# EAGLE library part SA58631 (library Audio-Power-amlifier V.2.0)
The SA58631 is a one channel audio amplifier in an HVSON8 package. It provides power output of 3 W with an 8 W load at 9 V supply. The internal circuit is comprised of a BTL (Bridge Tied Load) amplifier with a complementary PNP-NPN output stage and standby/mute logic. The SA58631 is housed in an 8-pin HVSON package which has an exposed die attach paddle enabling reduced thermal resistance and increased power dissipation.
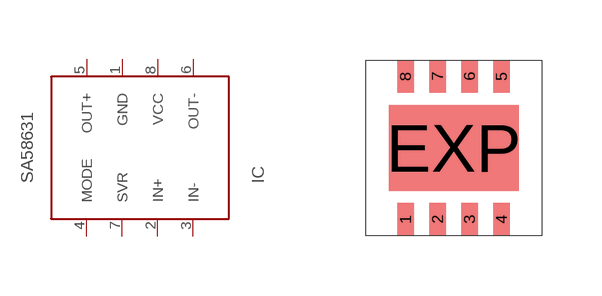
[diagram p100: symbol with the pads of SOT909-1; footprint SOT909-1]

Designator prefix IC

## SA58631HVSON8  [SOT909-1]
1  GND  pwr
2  IN+  in
3  IN-  in
4  MODE
5  OUT+  out
6  OUT-  out
7  SVR
8  VCC  pwr

## Footprint SOT909-1 (pad centres in mm)
smd 0.406 x 0.813: 1 -1.2,-1.79; 2 -0.4,-1.79; 3 0.4,-1.79; 4 1.2,-1.79; 5 1.2,1.79; 6 0.4,1.79; 7 -0.4,1.79; 8 -1.2,1.79
smd 3.25 x 2.15: EXP 0,0